# EAGLE library part ADL5519ACPZ-R7 (library Analog Devices)
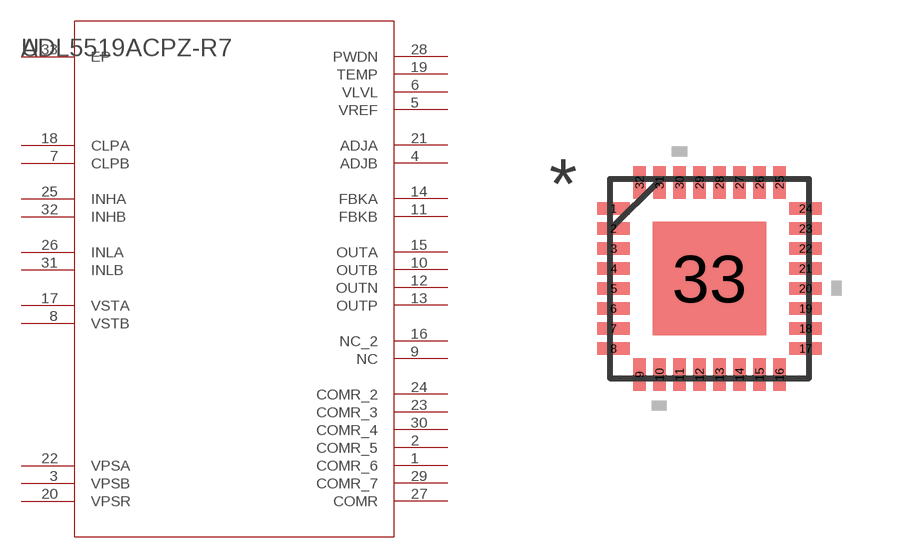
[diagram p0: symbol with the pads of CP_32_8; footprint CP_32_8]

Designator prefix U

## ADL5519ACPZ-R7  [CP_32_8]
1  COMR_6  pas
2  COMR_5  pas
3  VPSB  pwr
4  ADJB  pas
5  VREF  pas
6  VLVL  pas
7  CLPB  pas
8  VSTB  pas
9  NC  pas
10  OUTB  pas
11  FBKB  pas
12  OUTN  pas
13  OUTP  pas
14  FBKA  pas
15  OUTA  pas
16  NC_2  pas
17  VSTA  pas
18  CLPA  pas
19  TEMP  pas
20  VPSR  pwr
21  ADJA  pas
22  VPSA  pwr
23  COMR_3  pas
24  COMR_2  pas
25  INHA  pas
26  INLA  pas
27  COMR  pas
28  PWDN  pas
29  COMR_7  pas
30  COMR_4  pas
31  INLB  pas
32  INHB  pas
33  EP  pas

## Footprint CP_32_8 (pad centres in mm)
smd 0.813 x 0.305: 1 -2.4,1.75; 2 -2.4,1.25; 3 -2.4,0.75; 4 -2.4,0.25; 5 -2.4,-0.25; 6 -2.4,-0.75; 7 -2.4,-1.25; 8 -2.4,-1.75; 17 2.4,-1.75; 18 2.4,-1.25; 19 2.4,-0.75; 20 2.4,-0.25; 21 2.4,0.25; 22 2.4,0.75; 23 2.4,1.25; 24 2.4,1.75
smd 0.305 x 0.813: 9 -1.75,-2.4; 10 -1.25,-2.4; 11 -0.75,-2.4; 12 -0.25,-2.4; 13 0.25,-2.4; 14 0.75,-2.4; 15 1.25,-2.4; 16 1.75,-2.4; 25 1.75,2.4; 26 1.25,2.4; 27 0.75,2.4; 28 0.25,2.4; 29 -0.25,2.4; 30 -0.75,2.4; 31 -1.25,2.4; 32 -1.75,2.4
smd 2.845 x 2.845: 33 0,0